# EAGLE library part 68001-121HLF (library 68001-121HLF (2))
Headers & Wire Housings 21P SR UNSHRD HRD .76 GOLD OVER NI Source: Datasheet Check availability <https://pricing.snapeda.com/parts/68001-121HLF/Amphenol%20ICC/view-part?ref=eda>
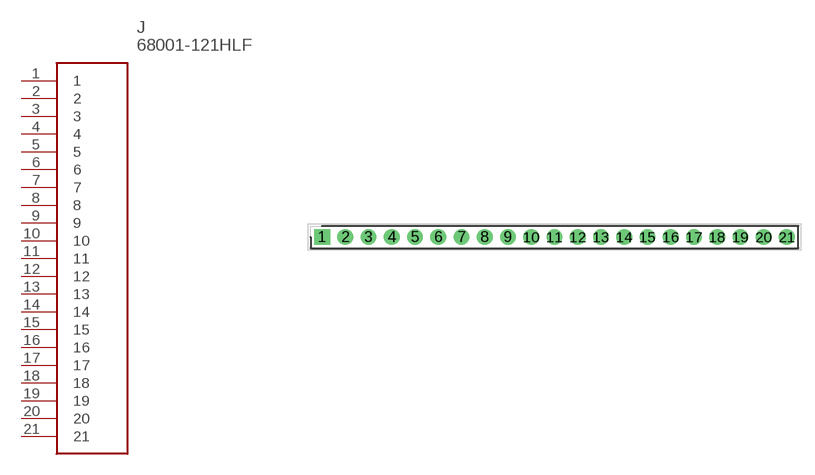
[diagram p0: symbol with the pads of HDRV21W67P0X254_1X21_5334X241X; footprint HDRV21W67P0X254_1X21_5334X241X]

Designator prefix J

## 68001-121HLF (Availability: In Stock; Description: BergStik®, Board to Board connector, Unshrouded vertical header, Through Hole, Single Row, , 21 Positions, 2.54 mm (0.100in) Pitch.; MF: Amphenol ICC; MP: 68001-121HLF; Package: None; Price: None; Purchase-URL: https://pricing.snapeda.com/search/part/68001-121HLF/?ref=eda)  [HDRV21W67P0X254_1X21_5334X241X]
1  1
2  2
3  3
4  4
5  5
6  6
7  7
8  8
9  9
10  10
11  11
12  12
13  13
14  14
15  15
16  16
17  17
18  18
19  19
20  20
21  21

## Footprint HDRV21W67P0X254_1X21_5334X241X (pad centres in mm)
68001-121HLF
drill 1.15 pad 1.725 square: 1 0,0
drill 1.15 pad 1.725: 2 2.54,0; 3 5.08,0; 4 7.62,0; 5 10.16,0; 6 12.7,0; 7 15.24,0; 8 17.78,0; 9 20.32,0; 10 22.86,0; 11 25.4,0; 12 27.94,0; 13 30.48,0; 14 33.02,0; 15 35.56,0; 16 38.1,0; 17 40.64,0; 18 43.18,0; 19 45.72,0; 20 48.26,0; 21 50.8,0